# EAGLE library part FLASH (library Flash)
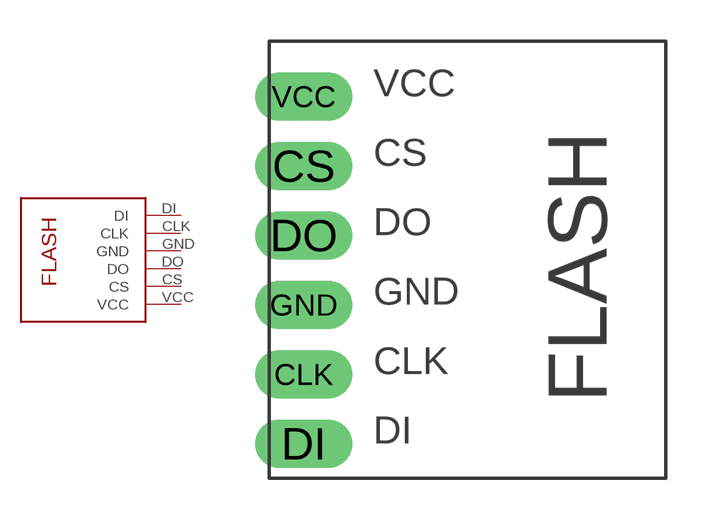
[diagram p0: symbol with the pads of FLASH; footprint FLASH]

Designator prefix -

## FLASH  [FLASH]
CLK  CLK
CS  CS
DI  DI
DO  DO
GND  GND
VCC  VCC

## Footprint FLASH (pad centres in mm)
drill 0.8 pad 1.778 long: CLK 1.27,3.81; CS 1.27,11.43; DI 1.27,1.27; DO 1.27,8.89; GND 1.27,6.35; VCC 1.27,13.97